# Altium integrated library WE-EPLE USB 2.0 A Connector.IntLib: 1 symbol
Pins are listed as number, name and electrical type; pins without a type are passive.

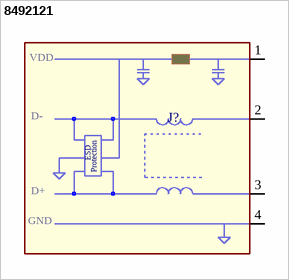
[diagram p0: symbol 8492121]

## 8492121
designator J?
THT USB 2.0 A Connector WE-EPLE; PartNumber: 8492121; PackageReference: WE-EPLE; ComponentLink1Description: Manufacturer URL; ComponentLink1URL: http://www.we-online.com; ComponentLink2Description: Datasheet; ComponentLink2URL: http://www.we-online.de/katalog/media/pdf/8492121.pdf
footprint WE-EPLE (THT, USB 2.0 A Connector, 4Pin, Body 15.8 x14.5mm)
pins: 1 VBUS, 2 D-, 3 D+, 4 GND
text: VDD; ESD; Protection